# Altium schematic symbol library SCH - SWITCH - SPST 2PIN ESD.SCHLIB: 1 symbol
Pins are listed as number, name and electrical type; pins without a type are passive.

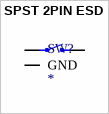
[diagram p0: symbol SPST 2PIN ESD]

## SPST 2PIN ESD
designator SW?
pins: A, B, GND